# EAGLE library part 74LVC1G157GW,125 (library SamacSys_Parts)
NXP 74LVC1G157GW,125, Multiplexer Encoder, 2 to 1, 1.65 5.5 V, 6-Pin SC-88 Source: Datasheet <https://assets.nexperia.com/documents/data-sheet/74LVC1G157.pdf>
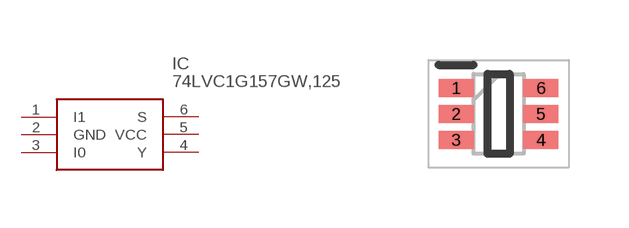
[diagram p174: symbol with the pads of SOP65P210X110-6N; footprint SOP65P210X110-6N]

Designator prefix IC

## 74LVC1G157GW,125 (DESCRIPTION: NXP 74LVC1G157GW,125, Multiplexer Encoder, 2 to 1, 1.65 5.5 V, 6-Pin SC-88; HEIGHT: 1.1mm; MANUFACTURER_NAME: Nexperia; MANUFACTURER_PART_NUMBER: 74LVC1G157GW,125; MOUSER_PART_NUMBER: 771-74LVC1G157GW-G; MOUSER_PRICE-STOCK: https://www.mouser.co.uk/ProductDetail/Nexperia/74LVC1G157GW125?qs=me8TqzrmIYXIuOIBP1Hsug%3D%3D)  [SOP65P210X110-6N]
1  I1
2  GND
3  I0
4  Y
5  VCC
6  S

## Footprint SOP65P210X110-6N (pad centres in mm)
SOT363
smd 0.875 x 0.45: 1 -1.062,0.65; 2 -1.062,0; 3 -1.062,-0.65; 4 1.062,-0.65; 5 1.062,0; 6 1.062,0.65